# Altium schematic symbol library Analog.SchLib: 165 symbols (part 5 of 5)
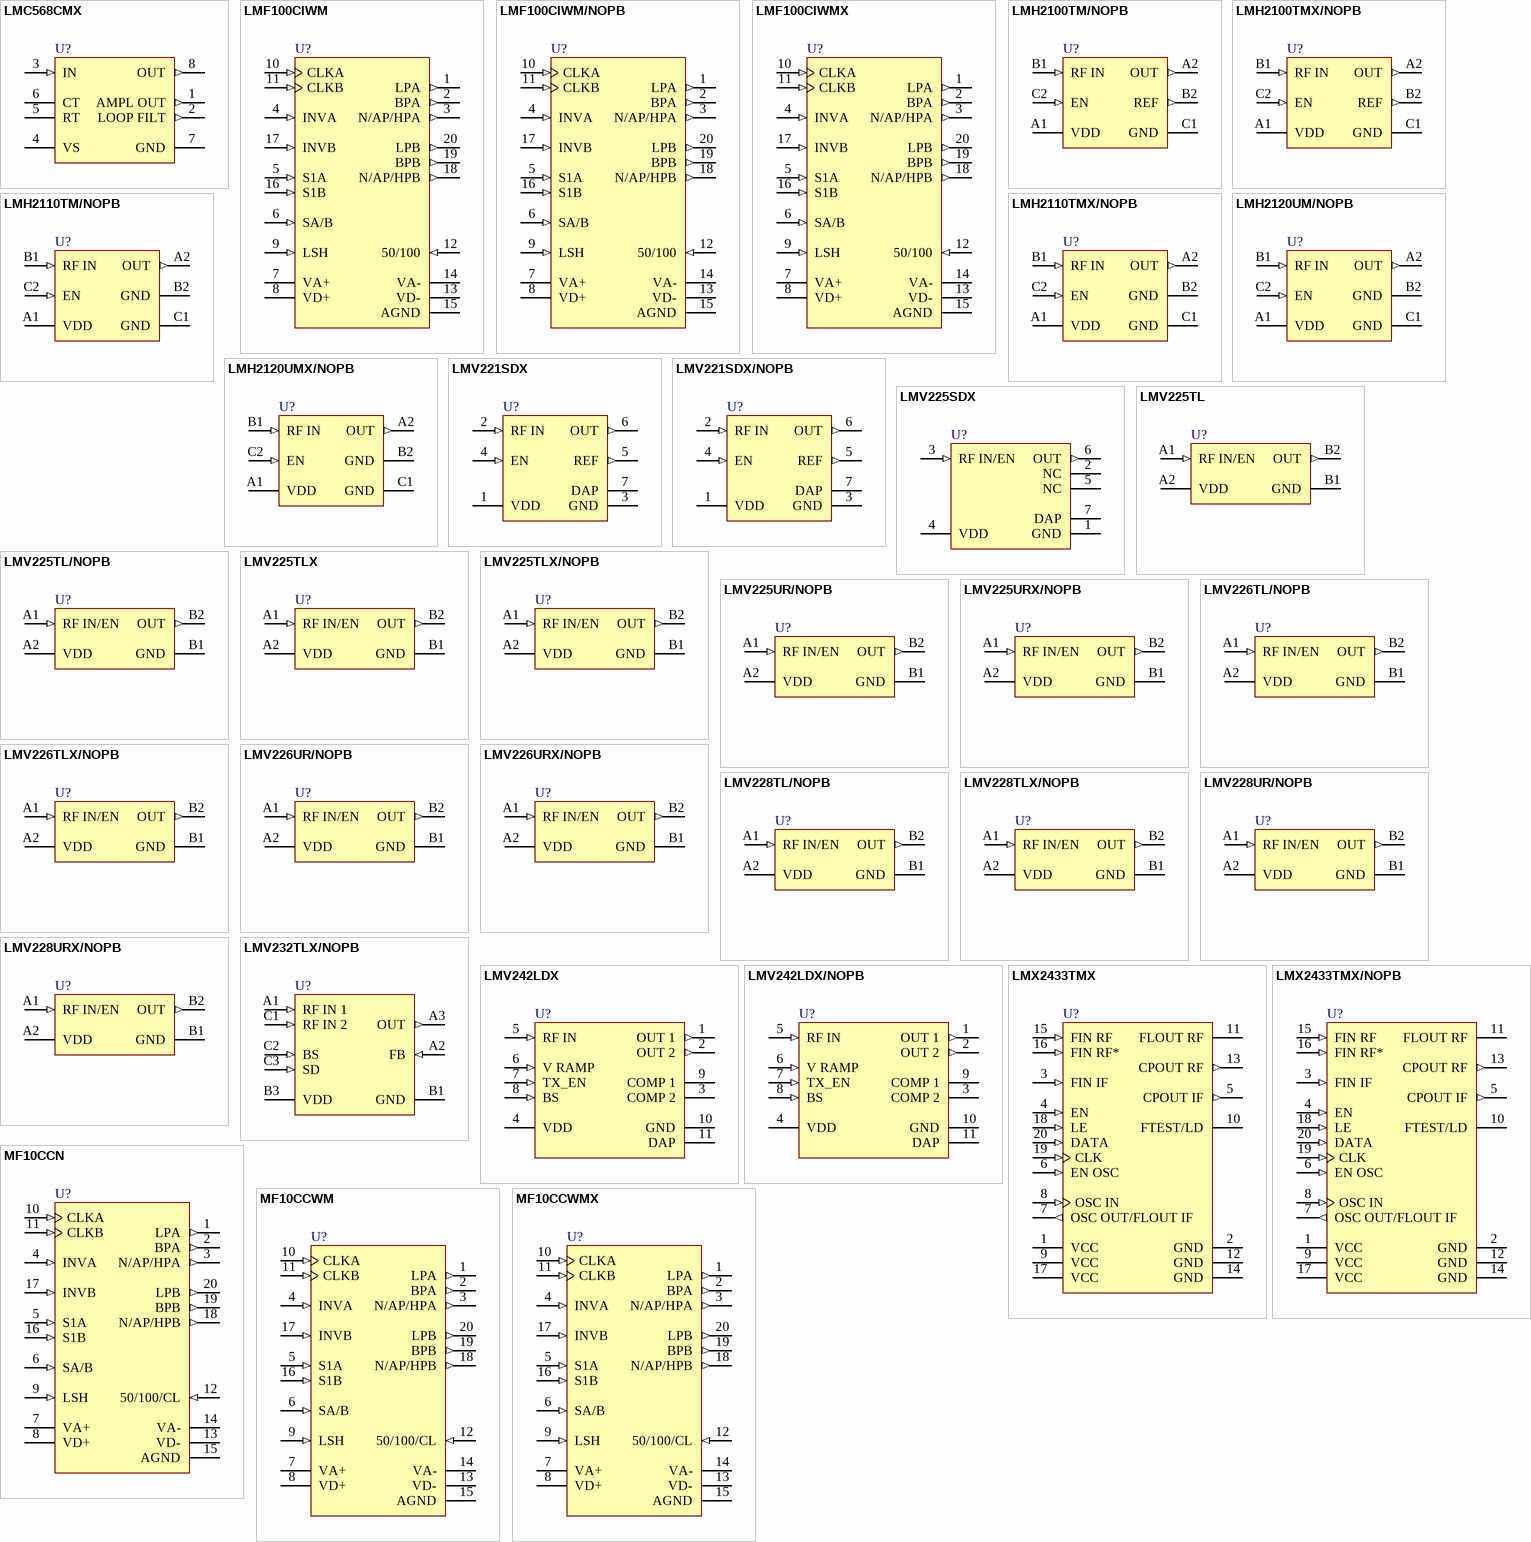
[diagram p11: symbols LMC568CMX to MF10CCWMX]

## MF10CCWM
designator U?
Universal Monolithic Dual Switched Capacitor Filter, 20-pin Wide SOIC; PartNumber: MF10CCWM; Manufacturer: National Semiconductor; PackageTopMarking: NSUZXYTTE#*MF10CCWM; PowerWise: N; CompType: Analog IC; High-Reliability: Y; DatasheetVersion: May-2001; PackageVersion: revG, Jan-1996; PackageReference: M20B; PackageDescription: Molded Package, S0, .300in Wide, 20 Lead; RoHS: N; PinCount: 20; Code_JEDEC: MS-013-AC; Code_IPC: SOIC127P1030-20; ComponentLink1Description: Manufacturer URL; ComponentLink1URL: http://www.national.com/; ComponentLink2Description: MF10 Datasheet; ComponentLink2URL: http://www.national.com/ds/MF/MF10.pdf; ComponentLink3Description: MF10 Web Page; ComponentLink3URL: http://www.national.com/pf/MF/MF10.html; ComponentLink4Description: M20B Package Page; ComponentLink4URL: http://www.national.com/packaging/folders/m20b.html
footprint M20B_N (SOIC, 20-Leads, Body 12.8x7.5mm, Pitch 1.27mm, IPC Medium Density)
footprint M20B_L (SOIC, 20-Leads, Body 12.8x7.5mm, Pitch 1.27mm, IPC High Density)
footprint M20B_M (SOIC, 20-Leads, Body 12.8x7.5mm, Pitch 1.27mm, IPC Low Density)
pins: 1 LPA (out), 2 BPA (out), 3 N/AP/HPA (out), 4 INVA (in), 5 S1A (in), 6 SA/B (in), 7 VA+ (power), 8 VD+ (power), 9 LSH (in), 10 CLKA (in), 11 CLKB (in), 12 50/100/CL (in), 13 VD- (power), 14 VA- (power), 15 AGND (power), 16 S1B (in), 17 INVB (in), 18 N/AP/HPB (out), 19 BPB (out), 20 LPB (out)

## MF10CCWMX
designator U?
Universal Monolithic Dual Switched Capacitor Filter, 20-pin Wide SOIC; PartNumber: MF10CCWMX; Manufacturer: National Semiconductor; PackageTopMarking: NSUZXYTTE#*MF10CCWM; PowerWise: N; CompType: Analog IC; High-Reliability: Y; DatasheetVersion: May-2001; PackageVersion: revG, Jan-1996; PackageReference: M20B; PackageDescription: Molded Package, S0, .300in Wide, 20 Lead; RoHS: N; PinCount: 20; Code_JEDEC: MS-013-AC; Code_IPC: SOIC127P1030-20; ComponentLink1Description: Manufacturer URL; ComponentLink1URL: http://www.national.com/; ComponentLink2Description: MF10 Datasheet; ComponentLink2URL: http://www.national.com/ds/MF/MF10.pdf; ComponentLink3Description: MF10 Web Page; ComponentLink3URL: http://www.national.com/pf/MF/MF10.html; ComponentLink4Description: M20B Package Page; ComponentLink4URL: http://www.national.com/packaging/folders/m20b.html
footprint M20B_N (SOIC, 20-Leads, Body 12.8x7.5mm, Pitch 1.27mm, IPC Medium Density)
footprint M20B_L (SOIC, 20-Leads, Body 12.8x7.5mm, Pitch 1.27mm, IPC High Density)
footprint M20B_M (SOIC, 20-Leads, Body 12.8x7.5mm, Pitch 1.27mm, IPC Low Density)
pins: 1 LPA (out), 2 BPA (out), 3 N/AP/HPA (out), 4 INVA (in), 5 S1A (in), 6 SA/B (in), 7 VA+ (power), 8 VD+ (power), 9 LSH (in), 10 CLKA (in), 11 CLKB (in), 12 50/100/CL (in), 13 VD- (power), 14 VA- (power), 15 AGND (power), 16 S1B (in), 17 INVB (in), 18 N/AP/HPB (out), 19 BPB (out), 20 LPB (out)

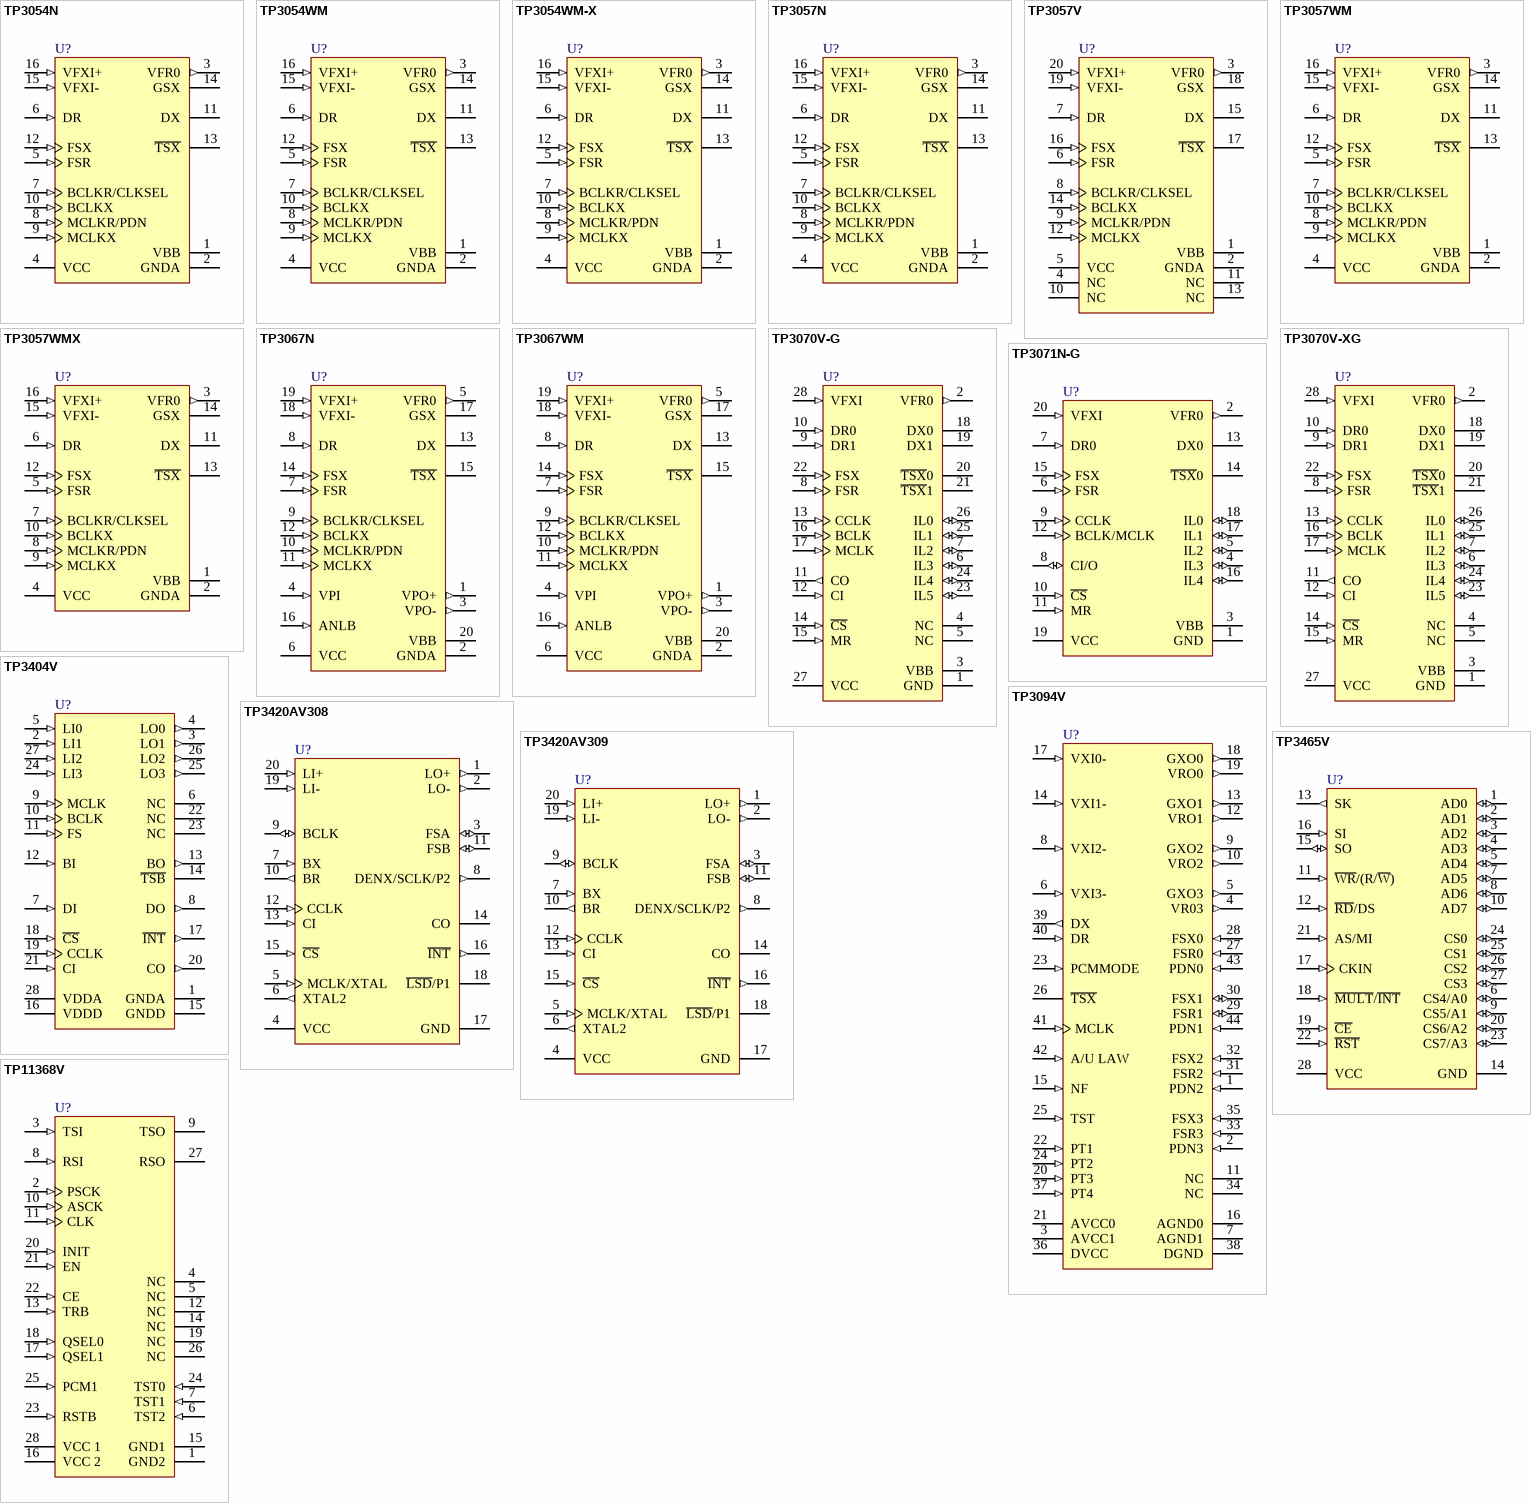
[diagram p7: symbols TP3054N to TP11368V]

## TP3054N
designator U?
Enhanced Serial Interface CODEC/Filter COMBO, 16-pin MDIP; PartNumber: TP3054N; Manufacturer: National Semiconductor; PackageTopMarking: NSUZXYYTTE#*TP3054N*COMBOR; PowerWise: N; CompType: Analog IC; High-Reliability: Y; DatasheetVersion: Aug-1994; PackageVersion: revG, May-2006; PackageReference: N16E; PackageDescription: MDIP, .750 x .250 x .130in, 16 Lead, .100in Pitch; RoHS: N; PinCount: 16; Code_JEDEC: MS-001-BB; ComponentLink1Description: Manufacturer URL; ComponentLink1URL: http://www.national.com/; ComponentLink2Description: TP3054 Datasheet; ComponentLink2URL: http://www.national.com/ds/TP/TP3054.pdf; ComponentLink3Description: TP3054 Web Page; ComponentLink3URL: http://www.national.com/pf/TP/TP3054.html; ComponentLink4Description: N16E Package Page; ComponentLink4URL: http://www.national.com/packaging/folders/n16e.html
footprint N16E (DIP, 16-Leads, Row Spacing 7.62mm, Pitch 2.54mm, Body 19.3x6.35mm)
pins: 1 VBB (power), 2 GNDA (power), 3 VFR0 (out), 4 VCC (power), 5 FSR (in), 6 DR (in), 7 BCLKR/CLKSEL (in), 8 MCLKR/PDN (in), 9 MCLKX (in), 10 BCLKX (in), 11 DX (hiz), 12 FSX (in), 13 ~{TSX} (oc), 14 GSX, 15 VFXI- (in), 16 VFXI+ (in)

## TP3054WM
designator U?
Enhanced Serial Interface CODEC/Filter COMBO, 16-pin Wide SOIC; PartNumber: TP3054WM; Manufacturer: National Semiconductor; PackageTopMarking: NSUZXYTTE#*TP3054WM*COMBOR; PowerWise: N; CompType: Analog IC; High-Reliability: Y; DatasheetVersion: Aug-1994; PackageVersion: revF, Apr-1990; PackageReference: M16B; PackageDescription: Molded Package, S.O., .300in Wide, 16 Lead; RoHS: N; PinCount: 16; Code_JEDEC: MS-013-AA; Code_IPC: SOIC127P1030-16; ComponentLink1Description: Manufacturer URL; ComponentLink1URL: http://www.national.com/; ComponentLink2Description: TP3054 Datasheet; ComponentLink2URL: http://www.national.com/ds/TP/TP3054.pdf; ComponentLink3Description: TP3054 Web Page; ComponentLink3URL: http://www.national.com/pf/TP/TP3054.html; ComponentLink4Description: M16B Package Page; ComponentLink4URL: http://www.national.com/packaging/folders/m16b.html
footprint M16B_N (SOIC, 16-Leads, Body 10.3x7.5mm, Pitch 1.27mm, IPC Medium Density)
footprint M16B_L (SOIC, 16-Leads, Body 10.3x7.5mm, Pitch 1.27mm, IPC High Density)
footprint M16B_M (SOIC, 16-Leads, Body 10.3x7.5mm, Pitch 1.27mm, IPC Low Density)
pins: 1 VBB (power), 2 GNDA (power), 3 VFR0 (out), 4 VCC (power), 5 FSR (in), 6 DR (in), 7 BCLKR/CLKSEL (in), 8 MCLKR/PDN (in), 9 MCLKX (in), 10 BCLKX (in), 11 DX (hiz), 12 FSX (in), 13 ~{TSX} (oc), 14 GSX, 15 VFXI- (in), 16 VFXI+ (in)

## TP3054WM-X
designator U?
Enhanced Serial Interface CODEC/Filter COMBO, 16-pin Wide SOIC; PartNumber: TP3054WM-X; Manufacturer: National Semiconductor; PackageTopMarking: NSUZXYTTE#*TP3054WM-X*COMBOR; PowerWise: N; CompType: Analog IC; High-Reliability: Y; DatasheetVersion: Aug-1994; PackageVersion: revF, Apr-1990; PackageReference: M16B; PackageDescription: Molded Package, S.O., .300in Wide, 16 Lead; RoHS: N; PinCount: 16; Code_JEDEC: MS-013-AA; Code_IPC: SOIC127P1030-16; ComponentLink1Description: Manufacturer URL; ComponentLink1URL: http://www.national.com/; ComponentLink2Description: TP3054 Datasheet; ComponentLink2URL: http://www.national.com/ds/TP/TP3054-X.pdf; ComponentLink3Description: TP3054 Web Page; ComponentLink3URL: http://www.national.com/pf/TP/TP3054.html; ComponentLink4Description: M16B Package Page; ComponentLink4URL: http://www.national.com/packaging/folders/m16b.html
footprint M16B_N (SOIC, 16-Leads, Body 10.3x7.5mm, Pitch 1.27mm, IPC Medium Density)
footprint M16B_L (SOIC, 16-Leads, Body 10.3x7.5mm, Pitch 1.27mm, IPC High Density)
footprint M16B_M (SOIC, 16-Leads, Body 10.3x7.5mm, Pitch 1.27mm, IPC Low Density)
pins: 1 VBB (power), 2 GNDA (power), 3 VFR0 (out), 4 VCC (power), 5 FSR (in), 6 DR (in), 7 BCLKR/CLKSEL (in), 8 MCLKR/PDN (in), 9 MCLKX (in), 10 BCLKX (in), 11 DX (hiz), 12 FSX (in), 13 ~{TSX} (oc), 14 GSX, 15 VFXI- (in), 16 VFXI+ (in)

## TP3057N
designator U?
Enhanced Serial Interface CODEC/Filter COMBO, 16-pin MDIP; PartNumber: TP3057N; Manufacturer: National Semiconductor; PackageTopMarking: NSUZXYYTTE#*TP3057N*COMBOR; PowerWise: N; CompType: Analog IC; High-Reliability: Y; DatasheetVersion: Aug-1994; PackageVersion: revG, May-2006; PackageReference: N16E; PackageDescription: MDIP, .750 x .250 x .130in, 16 Lead, .100in Pitch; RoHS: N; PinCount: 16; Code_JEDEC: MS-001-BB; ComponentLink1Description: Manufacturer URL; ComponentLink1URL: http://www.national.com/; ComponentLink2Description: TP3057 Datasheet; ComponentLink2URL: http://www.national.com/ds/TP/TP3057.pdf; ComponentLink3Description: TP3057 Web Page; ComponentLink3URL: http://www.national.com/pf/TP/TP3057.html; ComponentLink4Description: N16E Package Page; ComponentLink4URL: http://www.national.com/packaging/folders/n16e.html
footprint N16E (DIP, 16-Leads, Row Spacing 7.62mm, Pitch 2.54mm, Body 19.3x6.35mm)
pins: 1 VBB (power), 2 GNDA (power), 3 VFR0 (out), 4 VCC (power), 5 FSR (in), 6 DR (in), 7 BCLKR/CLKSEL (in), 8 MCLKR/PDN (in), 9 MCLKX (in), 10 BCLKX (in), 11 DX (hiz), 12 FSX (in), 13 ~{TSX} (oc), 14 GSX, 15 VFXI- (in), 16 VFXI+ (in)

## TP3057V
designator U?
Enhanced Serial Interface CODEC/Filter COMBO, 20-pin PLCC; PartNumber: TP3057V; Manufacturer: National Semiconductor; PackageTopMarking: NSUZXYTTE#*TP3057V*COMBOR; PowerWise: N; CompType: Analog IC; High-Reliability: Y; DatasheetVersion: Aug-1994; PackageVersion: revL, Dec-1993; PackageReference: V20A; PackageDescription: Plastic Chip Carrier, Sq., .050in Pitch, 20 Lead; RoHS: N; PinCount: 20; Code_JEDEC: MO-047-AA; Code_IPC: PLCC-20; ComponentLink1Description: Manufacturer URL; ComponentLink1URL: http://www.national.com/; ComponentLink2Description: TP3057 Datasheet; ComponentLink2URL: http://www.national.com/ds/TP/TP3057.pdf; ComponentLink3Description: TP3057 Web Page; ComponentLink3URL: http://www.national.com/pf/TP/TP3057.html; ComponentLink4Description: V20A Package Page; ComponentLink4URL: http://www.national.com/packaging/folders/v20a.html
footprint V20A_N (Leaded Chip Carrier, 20-Leads, Body 9x9mm, Pitch 1.27mm, IPC Medium Density)
footprint V20A_L (Leaded Chip Carrier, 20-Leads, Body 9x9mm, Pitch 1.27mm, IPC High Density)
footprint V20A_M (Leaded Chip Carrier, 20-Leads, Body 9x9mm, Pitch 1.27mm, IPC Low Density)
pins: 1 VBB (power), 2 GNDA (power), 3 VFR0 (out), 4 NC, 5 VCC (power), 6 FSR (in), 7 DR (in), 8 BCLKR/CLKSEL (in), 9 MCLKR/PDN (in), 10 NC, 11 NC, 12 MCLKX (in), 13 NC, 14 BCLKX (in), 15 DX (hiz), 16 FSX (in), 17 ~{TSX} (oc), 18 GSX, 19 VFXI- (in), 20 VFXI+ (in)

## TP3057WM
designator U?
Enhanced Serial Interface CODEC/Filter COMBO, 16-pin Wide SOIC; PartNumber: TP3057WM; Manufacturer: National Semiconductor; PackageTopMarking: NSUZXYTTE#*TP3057WM*COMBOR; PowerWise: N; CompType: Analog IC; High-Reliability: Y; DatasheetVersion: Aug-1994; PackageVersion: revF, Apr-1990; PackageReference: M16B; PackageDescription: Molded Package, S.O., .300in Wide, 16 Lead; RoHS: N; PinCount: 16; Code_JEDEC: MS-013-AA; Code_IPC: SOIC127P1030-16; ComponentLink1Description: Manufacturer URL; ComponentLink1URL: http://www.national.com/; ComponentLink2Description: TP3057 Datasheet; ComponentLink2URL: http://www.national.com/ds/TP/TP3057.pdf; ComponentLink3Description: TP3057 Web Page; ComponentLink3URL: http://www.national.com/pf/TP/TP3057.html; ComponentLink4Description: M16B Package Page; ComponentLink4URL: http://www.national.com/packaging/folders/m16b.html
footprint M16B_N (SOIC, 16-Leads, Body 10.3x7.5mm, Pitch 1.27mm, IPC Medium Density)
footprint M16B_L (SOIC, 16-Leads, Body 10.3x7.5mm, Pitch 1.27mm, IPC High Density)
footprint M16B_M (SOIC, 16-Leads, Body 10.3x7.5mm, Pitch 1.27mm, IPC Low Density)
pins: 1 VBB (power), 2 GNDA (power), 3 VFR0 (out), 4 VCC (power), 5 FSR (in), 6 DR (in), 7 BCLKR/CLKSEL (in), 8 MCLKR/PDN (in), 9 MCLKX (in), 10 BCLKX (in), 11 DX (hiz), 12 FSX (in), 13 ~{TSX} (oc), 14 GSX, 15 VFXI- (in), 16 VFXI+ (in)

## TP3057WMX
designator U?
Enhanced Serial Interface CODEC/Filter COMBO, 16-pin Wide SOIC; PartNumber: TP3057WMX; Manufacturer: National Semiconductor; PackageTopMarking: NSUZXYTTE#*TP3057WM*COMBOR; PowerWise: N; CompType: Analog IC; High-Reliability: Y; DatasheetVersion: Aug-1994; PackageVersion: revF, Apr-1990; PackageReference: M16B; PackageDescription: Molded Package, S.O., .300in Wide, 16 Lead; RoHS: N; PinCount: 16; Code_JEDEC: MS-013-AA; Code_IPC: SOIC127P1030-16; ComponentLink1Description: Manufacturer URL; ComponentLink1URL: http://www.national.com/; ComponentLink2Description: TP3057 Datasheet; ComponentLink2URL: http://www.national.com/ds/TP/TP3057.pdf; ComponentLink3Description: TP3057 Web Page; ComponentLink3URL: http://www.national.com/pf/TP/TP3057.html; ComponentLink4Description: M16B Package Page; ComponentLink4URL: http://www.national.com/packaging/folders/m16b.html
footprint M16B_N (SOIC, 16-Leads, Body 10.3x7.5mm, Pitch 1.27mm, IPC Medium Density)
footprint M16B_L (SOIC, 16-Leads, Body 10.3x7.5mm, Pitch 1.27mm, IPC High Density)
footprint M16B_M (SOIC, 16-Leads, Body 10.3x7.5mm, Pitch 1.27mm, IPC Low Density)
pins: 1 VBB (power), 2 GNDA (power), 3 VFR0 (out), 4 VCC (power), 5 FSR (in), 6 DR (in), 7 BCLKR/CLKSEL (in), 8 MCLKR/PDN (in), 9 MCLKX (in), 10 BCLKX (in), 11 DX (hiz), 12 FSX (in), 13 ~{TSX} (oc), 14 GSX, 15 VFXI- (in), 16 VFXI+ (in)

## TP3067N
designator U?
Enhanced Serial Interface CODEC/Filter COMBO, 20-pin MDIP; PartNumber: TP3067N; Manufacturer: National Semiconductor; PackageTopMarking: NSUZXYYTTE#*TP3067N*COMBOR; PowerWise: N; CompType: Analog IC; High-Reliability: Y; DatasheetVersion: Oct-1991; PackageVersion: revG, Nov-1984; PackageReference: N20A; PackageDescription: Molded Dip (N) 20 Lead; RoHS: N; PinCount: 20; Code_JEDEC: MS-001-AD; ComponentLink1Description: Manufacturer URL; ComponentLink1URL: http://www.national.com/; ComponentLink2Description: TP3067 Datasheet; ComponentLink2URL: http://www.national.com/ds/TP/TP3067.pdf; ComponentLink3Description: TP3067 Web Page; ComponentLink3URL: http://www.national.com/pf/TP/TP3067.html; ComponentLink4Description: N20A Package Page; ComponentLink4URL: http://www.national.com/packaging/folders/n20a.html
footprint N20A (DIP, 20-Leads, Row Spacing 7.62mm, Pitch 2.54mm, Body 26.07x6.6mm)
pins: 1 VPO+ (out), 2 GNDA (power), 3 VPO- (out), 4 VPI (in), 5 VFR0 (out), 6 VCC (power), 7 FSR (in), 8 DR (in), 9 BCLKR/CLKSEL (in), 10 MCLKR/PDN (in), 11 MCLKX (in), 12 BCLKX (in), 13 DX (hiz), 14 FSX (in), 15 ~{TSX} (oc), 16 ANLB (in), 17 GSX, 18 VFXI- (in), 19 VFXI+ (in), 20 VBB (power)

## TP3067WM
designator U?
Enhanced Serial Interface CODEC/Filter COMBO, 20-pin Wide SOIC; PartNumber: TP3067WM; Manufacturer: National Semiconductor; PackageTopMarking: NSUZXYTTE#*TP3067WM*COMBOR; PowerWise: N; CompType: Analog IC; High-Reliability: Y; DatasheetVersion: Oct-1991; PackageVersion: revG, Jan-1996; PackageReference: M20B; PackageDescription: Molded Package, S0, .300in Wide, 20 Lead; RoHS: N; PinCount: 20; Code_JEDEC: MS-013-AC; Code_IPC: SOIC127P1030-20; ComponentLink1Description: Manufacturer URL; ComponentLink1URL: http://www.national.com/; ComponentLink2Description: TP3067 Datasheet; ComponentLink2URL: http://www.national.com/ds/TP/TP3067.pdf; ComponentLink3Description: TP3067 Web Page; ComponentLink3URL: http://www.national.com/pf/TP/TP3067.html; ComponentLink4Description: M20B Package Page; ComponentLink4URL: http://www.national.com/packaging/folders/m20b.html
footprint M20B_N (SOIC, 20-Leads, Body 12.8x7.5mm, Pitch 1.27mm, IPC Medium Density)
footprint M20B_L (SOIC, 20-Leads, Body 12.8x7.5mm, Pitch 1.27mm, IPC High Density)
footprint M20B_M (SOIC, 20-Leads, Body 12.8x7.5mm, Pitch 1.27mm, IPC Low Density)
pins: 1 VPO+ (out), 2 GNDA (power), 3 VPO- (out), 4 VPI (in), 5 VFR0 (out), 6 VCC (power), 7 FSR (in), 8 DR (in), 9 BCLKR/CLKSEL (in), 10 MCLKR/PDN (in), 11 MCLKX (in), 12 BCLKX (in), 13 DX (hiz), 14 FSX (in), 15 ~{TSX} (oc), 16 ANLB (in), 17 GSX, 18 VFXI- (in), 19 VFXI+ (in), 20 VBB (power)

## TP3070V-G
designator U?
COMBO II Programmable PCM CODEC/Filter, 28-pin PLCC; PartNumber: TP3070V-G; Manufacturer: National Semiconductor; PackageTopMarking: NSUZXYYTTE#*TP3070V-G*COMBOR; PowerWise: N; CompType: Analog IC; High-Reliability: Y; DatasheetVersion: Apr-1994; PackageVersion: revK, Dec-1993; PackageReference: V28A; PackageDescription: Plastic Chip Carrier, Sq., .050in Pitch, 28 Lead; RoHS: N; PinCount: 28; Code_IPC: PLCC-28; ComponentLink1Description: Manufacturer URL; ComponentLink1URL: http://www.national.com/; ComponentLink2Description: TP3070 Datasheet; ComponentLink2URL: http://www.national.com/ds/TP/TP3070.pdf; ComponentLink3Description: TP3070 Web Page; ComponentLink3URL: http://www.national.com/pf/TP/TP3070.html; ComponentLink4Description: V28A Package Page; ComponentLink4URL: http://www.national.com/packaging/folders/v28a.html
footprint V28A_N (Leaded Chip Carrier, 28-Leads, Body 11.5x11.5mm, Pitch 1.27mm, IPC Medium Density)
footprint V28A_L (Leaded Chip Carrier, 28-Leads, Body 11.5x11.5mm, Pitch 1.27mm, IPC High Density)
footprint V28A_M (Leaded Chip Carrier, 28-Leads, Body 11.5x11.5mm, Pitch 1.27mm, IPC Low Density)
pins: 1 GND (power), 2 VFR0 (out), 3 VBB (power), 4 NC, 5 NC, 6 IL3 (io), 7 IL2 (io), 8 FSR (in), 9 DR1 (in), 10 DR0 (in), 11 CO (out), 12 CI (in), 13 CCLK (in), 14 ~{CS} (in), 15 MR (in), 16 BCLK (in), 17 MCLK (in), 18 DX0 (hiz), 19 DX1 (hiz), 20 ~{TSX}0 (oc), 21 ~{TSX}1 (oc), 22 FSX (in), 23 IL5 (io), 24 IL4 (io), 25 IL1 (io), 26 IL0 (io), 27 VCC (power), 28 VFXI (in)

## TP3070V-XG
designator U?
COMBO II Programmable PCM CODEC/Filter, 28-pin PLCC; PartNumber: TP3070V-XG; Manufacturer: National Semiconductor; PackageTopMarking: NSUZXYYTTE#*TP3070V-XG*COMBOR; PowerWise: N; CompType: Analog IC; High-Reliability: Y; DatasheetVersion: Apr-1994; PackageVersion: revK, Dec-1993; PackageReference: V28A; PackageDescription: Plastic Chip Carrier, Sq., .050in Pitch, 28 Lead; RoHS: N; PinCount: 28; Code_IPC: PLCC-28; ComponentLink1Description: Manufacturer URL; ComponentLink1URL: http://www.national.com/; ComponentLink2Description: TP3070 Datasheet; ComponentLink2URL: http://www.national.com/ds/TP/TP3070.pdf; ComponentLink3Description: TP3070 Web Page; ComponentLink3URL: http://www.national.com/pf/TP/TP3070.html; ComponentLink4Description: V28A Package Page; ComponentLink4URL: http://www.national.com/packaging/folders/v28a.html
footprint V28A_N (Leaded Chip Carrier, 28-Leads, Body 11.5x11.5mm, Pitch 1.27mm, IPC Medium Density)
footprint V28A_L (Leaded Chip Carrier, 28-Leads, Body 11.5x11.5mm, Pitch 1.27mm, IPC High Density)
footprint V28A_M (Leaded Chip Carrier, 28-Leads, Body 11.5x11.5mm, Pitch 1.27mm, IPC Low Density)
pins: 1 GND (power), 2 VFR0 (out), 3 VBB (power), 4 NC, 5 NC, 6 IL3 (io), 7 IL2 (io), 8 FSR (in), 9 DR1 (in), 10 DR0 (in), 11 CO (out), 12 CI (in), 13 CCLK (in), 14 ~{CS} (in), 15 MR (in), 16 BCLK (in), 17 MCLK (in), 18 DX0 (hiz), 19 DX1 (hiz), 20 ~{TSX}0 (oc), 21 ~{TSX}1 (oc), 22 FSX (in), 23 IL5 (io), 24 IL4 (io), 25 IL1 (io), 26 IL0 (io), 27 VCC (power), 28 VFXI (in)

## TP3071N-G
designator U?
COMBO II Programmable PCM CODEC/Filter, 20-pin MDIP; PartNumber: TP3071N-G; Manufacturer: National Semiconductor; PackageTopMarking: NSUZXYYTTE#*TP3071N-G*COMBOR; PowerWise: N; CompType: Analog IC; High-Reliability: Y; DatasheetVersion: Apr-1994; PackageVersion: revG, Nov-1984; PackageReference: N20A; PackageDescription: Molded Dip (N) 20 Lead; RoHS: N; PinCount: 20; Code_JEDEC: MS-001-AD; ComponentLink1Description: Manufacturer URL; ComponentLink1URL: http://www.national.com/; ComponentLink2Description: TP3071 Datasheet; ComponentLink2URL: http://www.national.com/ds/TP/TP3071.pdf; ComponentLink3Description: TP3071 Web Page; ComponentLink3URL: http://www.national.com/pf/TP/TP3071.html; ComponentLink4Description: N20A Package Page; ComponentLink4URL: http://www.national.com/packaging/folders/n20a.html
footprint N20A (DIP, 20-Leads, Row Spacing 7.62mm, Pitch 2.54mm, Body 26.07x6.6mm)
pins: 1 GND (power), 2 VFR0 (out), 3 VBB (power), 4 IL3 (io), 5 IL2 (io), 6 FSR (in), 7 DR0 (in), 8 CI/O (io), 9 CCLK (in), 10 ~{CS} (in), 11 MR (in), 12 BCLK/MCLK (in), 13 DX0 (hiz), 14 ~{TSX}0 (oc), 15 FSX (in), 16 IL4 (io), 17 IL1 (io), 18 IL0 (io), 19 VCC (power), 20 VFXI (in)

## TP3094V
designator U?
Quad PCM Codec/Filter, 44-pin PLCC; PartNumber: TP3094V; Manufacturer: National Semiconductor; PackageTopMarking: NSUZXYYTTE#*TP3094V; PowerWise: N; CompType: Analog IC; High-Reliability: Y; DatasheetVersion: Feb-2000; PackageVersion: revK, Dec-1993; PackageReference: V44A; PackageDescription: Plastic Chip Carrier, Sq, .050in Pitch, 44 Lead; RoHS: N; PinCount: 44; Code_IPC: PLCC-44; ComponentLink1Description: Manufacturer URL; ComponentLink1URL: http://www.national.com/; ComponentLink2Description: TP3094 Datasheet; ComponentLink2URL: http://www.national.com/ds/TP/TP3094.pdf; ComponentLink3Description: TP3094 Web Page; ComponentLink3URL: http://www.national.com/pf/TP/TP3094.html; ComponentLink4Description: V44A Package Page; ComponentLink4URL: http://www.national.com/packaging/folders/v44a.html
footprint V44A_N (Leaded Chip Carrier, 44-Leads, Body 16.6x16.6mm, Pitch 1.27mm, IPC Medium Density)
footprint V44A_L (Leaded Chip Carrier, 44-Leads, Body 16.6x16.6mm, Pitch 1.27mm, IPC High Density)
footprint V44A_M (Leaded Chip Carrier, 44-Leads, Body 16.6x16.6mm, Pitch 1.27mm, IPC Low Density)
pins: 1 PDN2 (in), 2 PDN3 (in), 3 AVCC1 (power), 4 VR03 (out), 5 GXO3 (out), 6 VXI3- (in), 7 AGND1 (power), 8 VXI2- (in), 9 GXO2 (out), 10 VRO2 (out), 11 NC, 12 VRO1 (out), 13 GXO1 (out), 14 VXI1- (in), 15 NF (in), 16 AGND0 (power), 17 VXI0- (in), 18 GXO0 (out), 19 VRO0 (out), 20 PT3 (in), 21 AVCC0 (power), 22 PT1 (in), 23 PCMMODE (in), 24 PT2 (in), 25 TST (in), 26 ~{TSX} (oc), 27 FSR0 (in), 28 FSX0 (in), 29 FSR1 (io), 30 FSX1 (io), 31 FSR2 (in), 32 FSX2 (in), 33 FSR3 (in), 34 NC, 35 FSX3 (in), 36 DVCC (power), 37 PT4 (in), 38 DGND (power), 39 DX (out), 40 DR (in), 41 MCLK (in), 42 A/U LAW (in), 43 PDN0 (in), 44 PDN1 (in)

## TP3404V
designator U?
Quad Digital Adapter for Subscriber Loops (QDASL), 28-pin PLCC; PartNumber: TP3404V; Manufacturer: National Semiconductor; PackageTopMarking: NSUZXYYTTE#*TP3404V; PowerWise: N; CompType: Analog IC; High-Reliability: Y; DatasheetVersion: Dec-2004; PackageVersion: revK, Dec-1993; PackageReference: V28A; PackageDescription: Plastic Chip Carrier, Sq., .050in Pitch, 28 Lead; RoHS: N; PinCount: 28; Code_IPC: PLCC-28; ComponentLink1Description: Manufacturer URL; ComponentLink1URL: http://www.national.com/; ComponentLink2Description: TP3404 Datasheet; ComponentLink2URL: http://www.national.com/ds/TP/TP3404.pdf; ComponentLink3Description: TP3404 Web Page; ComponentLink3URL: http://www.national.com/pf/TP/TP3404.html; ComponentLink4Description: V28A Package Page; ComponentLink4URL: http://www.national.com/packaging/folders/v28a.html
footprint V28A_N (Leaded Chip Carrier, 28-Leads, Body 11.5x11.5mm, Pitch 1.27mm, IPC Medium Density)
footprint V28A_L (Leaded Chip Carrier, 28-Leads, Body 11.5x11.5mm, Pitch 1.27mm, IPC High Density)
footprint V28A_M (Leaded Chip Carrier, 28-Leads, Body 11.5x11.5mm, Pitch 1.27mm, IPC Low Density)
pins: 1 GNDA (power), 2 LI1 (in), 3 LO1 (out), 4 LO0 (out), 5 LI0 (in), 6 NC, 7 DI (in), 8 DO (out), 9 MCLK (in), 10 BCLK (in), 11 FS (in), 12 BI (in), 13 BO (out), 14 ~{TSB} (oc), 15 GNDD (power), 16 VDDD (power), 17 ~{INT} (out), 18 ~{CS} (in), 19 CCLK (in), 20 CO (out), 21 CI (in), 22 NC, 23 NC, 24 LI3 (in), 25 LO3 (out), 26 LO2 (out), 27 LI2 (in), 28 VDDA (power)

## TP3420AV308
designator U?
ISDN S/T Interface Device, 20-pin PLCC; PartNumber: TP3420AV308; Manufacturer: National Semiconductor; PackageTopMarking: NSUZXYTTE#*TP3420AV*308; PowerWise: N; CompType: Analog IC; High-Reliability: Y; DatasheetVersion: Jul-1994; PackageVersion: revL, Dec-1993; PackageReference: V20A; PackageDescription: Plastic Chip Carrier, Sq., .050in Pitch, 20 Lead; RoHS: N; PinCount: 20; Code_JEDEC: MO-047-AA; Code_IPC: PLCC-20; ComponentLink1Description: Manufacturer URL; ComponentLink1URL: http://www.national.com/; ComponentLink2Description: TP3420A Datasheet; ComponentLink2URL: http://www.national.com/ds/TP/TP3420A.pdf; ComponentLink3Description: TP3420A Web Page; ComponentLink3URL: http://www.national.com/pf/TP/TP3420A.html; ComponentLink4Description: V20A Package Page; ComponentLink4URL: http://www.national.com/packaging/folders/v20a.html
footprint V20A_N (Leaded Chip Carrier, 20-Leads, Body 9x9mm, Pitch 1.27mm, IPC Medium Density)
footprint V20A_L (Leaded Chip Carrier, 20-Leads, Body 9x9mm, Pitch 1.27mm, IPC High Density)
footprint V20A_M (Leaded Chip Carrier, 20-Leads, Body 9x9mm, Pitch 1.27mm, IPC Low Density)
pins: 1 LO+ (out), 2 LO- (out), 3 FSA (io), 4 VCC (power), 5 MCLK/XTAL (in), 6 XTAL2 (out), 7 BX (in), 8 DENX/SCLK/P2 (out), 9 BCLK (io), 10 BR (out), 11 FSB (io), 12 CCLK (in), 13 CI (in), 14 CO (hiz), 15 ~{CS} (in), 16 ~{INT} (out), 17 GND (power), 18 ~{LSD}/P1 (hiz), 19 LI- (in), 20 LI+ (in)

## TP3420AV309
designator U?
ISDN S/T Interface Device, 20-pin PLCC; PartNumber: TP3420AV309; Manufacturer: National Semiconductor; PackageTopMarking: NSUZXYTTE#*TP3420AV*309; PowerWise: N; CompType: Analog IC; High-Reliability: Y; DatasheetVersion: Jul-1994; PackageVersion: revL, Dec-1993; PackageReference: V20A; PackageDescription: Plastic Chip Carrier, Sq., .050in Pitch, 20 Lead; RoHS: N; PinCount: 20; Code_JEDEC: MO-047-AA; Code_IPC: PLCC-20; ComponentLink1Description: Manufacturer URL; ComponentLink1URL: http://www.national.com/; ComponentLink2Description: TP3420A Datasheet; ComponentLink2URL: http://www.national.com/ds/TP/TP3420A.pdf; ComponentLink3Description: TP3420A Web Page; ComponentLink3URL: http://www.national.com/pf/TP/TP3420A.html; ComponentLink4Description: V20A Package Page; ComponentLink4URL: http://www.national.com/packaging/folders/v20a.html
footprint V20A_N (Leaded Chip Carrier, 20-Leads, Body 9x9mm, Pitch 1.27mm, IPC Medium Density)
footprint V20A_L (Leaded Chip Carrier, 20-Leads, Body 9x9mm, Pitch 1.27mm, IPC High Density)
footprint V20A_M (Leaded Chip Carrier, 20-Leads, Body 9x9mm, Pitch 1.27mm, IPC Low Density)
pins: 1 LO+ (out), 2 LO- (out), 3 FSA (io), 4 VCC (power), 5 MCLK/XTAL (in), 6 XTAL2 (out), 7 BX (in), 8 DENX/SCLK/P2 (out), 9 BCLK (io), 10 BR (out), 11 FSB (io), 12 CCLK (in), 13 CI (in), 14 CO (hiz), 15 ~{CS} (in), 16 ~{INT} (out), 17 GND (power), 18 ~{LSD}/P1 (hiz), 19 LI- (in), 20 LI+ (in)

## TP3465V
designator U?
MICROWIRE Interface Device (MID), 28-pin PLCC; PartNumber: TP3465V; Manufacturer: National Semiconductor; PackageTopMarking: NSUZXYYTTE#*TP3465V*MID; PowerWise: N; CompType: Analog IC; High-Reliability: Y; DatasheetVersion: Jul-1999; PackageVersion: revK, Dec-1993; PackageReference: V28A; PackageDescription: Plastic Chip Carrier, Sq., .050in Pitch, 28 Lead; RoHS: N; PinCount: 28; Code_IPC: PLCC-28; ComponentLink1Description: Manufacturer URL; ComponentLink1URL: http://www.national.com/; ComponentLink2Description: TP3465 Datasheet; ComponentLink2URL: http://www.national.com/ds/TP/TP3465.pdf; ComponentLink3Description: TP3465 Web Page; ComponentLink3URL: http://www.national.com/pf/TP/TP3465.html; ComponentLink4Description: V28A Package Page; ComponentLink4URL: http://www.national.com/packaging/folders/v28a.html
footprint V28A_N (Leaded Chip Carrier, 28-Leads, Body 11.5x11.5mm, Pitch 1.27mm, IPC Medium Density)
footprint V28A_L (Leaded Chip Carrier, 28-Leads, Body 11.5x11.5mm, Pitch 1.27mm, IPC High Density)
footprint V28A_M (Leaded Chip Carrier, 28-Leads, Body 11.5x11.5mm, Pitch 1.27mm, IPC Low Density)
pins: 1 AD0 (io), 2 AD1 (io), 3 AD2 (io), 4 AD3 (io), 5 AD4 (io), 6 CS4/A0 (io), 7 AD5 (io), 8 AD6 (io), 9 CS5/A1 (io), 10 AD7 (io), 11 ~{WR}/(R/~{W}) (in), 12 ~{RD}/DS (in), 13 SK (out), 14 GND (power), 15 SO (io), 16 SI (in), 17 CKIN (in), 18 ~{MULT}/~{INT} (in), 19 ~{CE} (in), 20 CS6/A2 (io), 21 AS/MI (in), 22 ~{RST} (in), 23 CS7/A3 (io), 24 CS0 (io), 25 CS1 (io), 26 CS2 (io), 27 CS3 (io), 28 VCC (power)

## TP11368V
designator U?
Octal Adaptive Differential PCM Processor, 28-pin PLCC; PartNumber: TP11368V; Manufacturer: National Semiconductor; PackageTopMarking: NSUZXYYTTE#*TP11368V; PowerWise: N; CompType: Analog IC; High-Reliability: Y; DatasheetVersion: Mar-1997; PackageVersion: revK, Dec-1993; PackageReference: V28A; PackageDescription: Plastic Chip Carrier, Sq., .050in Pitch, 28 Lead; RoHS: N; PinCount: 28; Code_IPC: PLCC-28; ComponentLink1Description: Manufacturer URL; ComponentLink1URL: http://www.national.com/; ComponentLink2Description: TP11368 Datasheet; ComponentLink2URL: http://www.national.com/ds/TP/TP11368.pdf; ComponentLink3Description: TP11368 Web Page; ComponentLink3URL: http://www.national.com/pf/TP/TP11368.html; ComponentLink4Description: V28A Package Page; ComponentLink4URL: http://www.national.com/packaging/folders/v28a.html
footprint V28A_N (Leaded Chip Carrier, 28-Leads, Body 11.5x11.5mm, Pitch 1.27mm, IPC Medium Density)
footprint V28A_L (Leaded Chip Carrier, 28-Leads, Body 11.5x11.5mm, Pitch 1.27mm, IPC High Density)
footprint V28A_M (Leaded Chip Carrier, 28-Leads, Body 11.5x11.5mm, Pitch 1.27mm, IPC Low Density)
pins: 1 GND2 (power), 2 PSCK (in), 3 TSI (in), 4 NC, 5 NC, 6 TST2 (in), 7 TST1 (in), 8 RSI (in), 9 TSO (hiz), 10 ASCK (in), 11 CLK (in), 12 NC, 13 TRB (in), 14 NC, 15 GND1 (power), 16 VCC 2 (power), 17 QSEL1 (in), 18 QSEL0 (in), 19 NC, 20 INIT (in), 21 EN (in), 22 CE (in), 23 RSTB (in), 24 TST0 (in), 25 PCM1 (in), 26 NC, 27 RSO (hiz), 28 VCC 1 (power)